# Altium schematic symbol library WE-OLRM.SchLib: 12 symbols
Pins are listed as number, name and electrical type; pins without a type are passive.

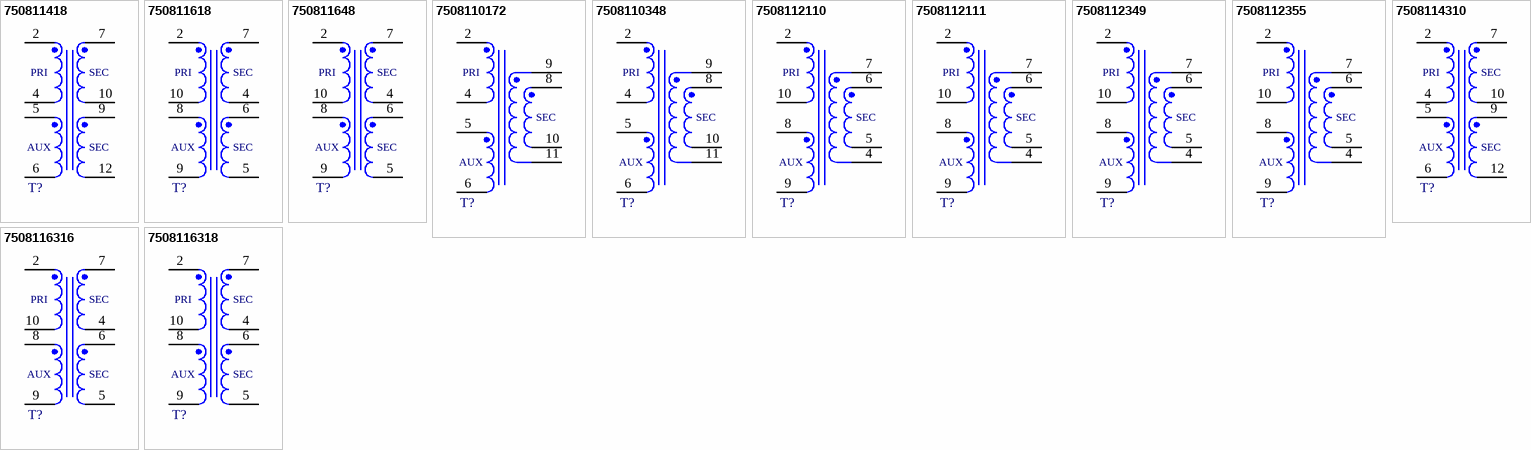
[diagram p0: symbols 750811418 to 7508116318]

## 750811418
designator T?, comment Ui = 100 - 265V, Uo1 = 5V / 0.7A, Uo2 = 12V / 0.29A  (value not drawn)
WE-OLRM RM-Style Offline Flyback Transformer, THT, RM6, Ui = 100 - 265V, Uo1 = 5V / 0.7A, Uo2 = 12V / 0.29A; Manufacturer Part Number: 750811418; Manufacturer: Wurth Elektronik; Auxiliary Voltage: 24V; Inductance: 4000uH; Input Voltage: 100 - 265VAC; Insulation Test Voltage: 3900VAC; Saturation Current: 0.45A; Switching Frequency: 40 - 100kHz; Turns Ratio: 26:1:2.4:4.8; Category: Offline Flyback Transformers; Match Code: WE-OLRM; ComponentLink1Description: Website Link; ComponentLink1URL: https://www.we-online.com/redexpert/article/750811418?ad; ComponentLink2Description: Datasheet Link; ComponentLink2URL: https://www.we-online.com/redexpert/spec/750811418?ad; Mount: Through Hole; Operating Temperature Max: 125°C; Operating Temperature Min: -40°C; Packaging: Tray; Case/Size Code: RM6; Length: 23mm; Width: 20.07mm; Height: 15mm; Output Current 1: 0.7A; Output Current 2: 0.29A; Output Voltage 1: 5V; Output Voltage 2: 12V
footprint WE-OLRM_RM6
pins: 2, 4, 5, 6, 7, 9, 10, 12
text: PRI; SEC; AUX

## 750811618
designator T?, comment Ui = 85 - 265V, Uo1 = 5V / 2A, Uo2 = 12V / 1.1A  (value not drawn)
WE-OLRM RM-Style Offline Flyback Transformer, THT, RM8, Ui = 85 - 265V, Uo1 = 5V / 2A, Uo2 = 12V / 1.1A; Manufacturer Part Number: 750811618; Manufacturer: Wurth Elektronik; Auxiliary Voltage: 16V; Inductance: 742uH; Input Voltage: 85 - 265VAC; Insulation Test Voltage: 3900VAC; Saturation Current: 2.6A; Switching Frequency: 44 - 105kHz; Turns Ratio: 20:2.25:1:3; Category: Offline Flyback Transformers; Match Code: WE-OLRM; ComponentLink1Description: Website Link; ComponentLink1URL: https://www.we-online.com/redexpert/article/750811618?ad; ComponentLink2Description: Datasheet Link; ComponentLink2URL: https://www.we-online.com/redexpert/spec/750811618?ad; Mount: Through Hole; Operating Temperature Max: 125°C; Operating Temperature Min: -40°C; Packaging: Tray; Case/Size Code: RM8; Length: 24.64mm; Width: 24.64mm; Height: 17.32mm; Output Current 1: 2A; Output Current 2: 1.1A; Output Voltage 1: 5V; Output Voltage 2: 12V
footprint WE-OLRM_RM8
pins: 2, 4, 5, 6, 7, 8, 9, 10
text: PRI; SEC; AUX

## 750811648
designator T?, comment Ui = 85 - 265V, Uo1 = 24V / 0.4A, Uo2 = 24V / 0.4A  (value not drawn)
WE-OLRM RM-Style Offline Flyback Transformer, THT, RM10, Ui = 85 - 265V, Uo1 = 24V / 0.4A, Uo2 = 24V / 0.4A; Manufacturer Part Number: 750811648; Manufacturer: Wurth Elektronik; Inductance: 600uH; Input Voltage: 85 - 265VAC; Insulation Test Voltage: 3900VAC; Saturation Current: 3.75A; Switching Frequency: 100kHz; Turns Ratio: 4.5:1:1:1; Category: Offline Flyback Transformers; Match Code: WE-OLRM; ComponentLink1Description: Website Link; ComponentLink1URL: https://www.we-online.com/redexpert/article/750811648?ad; ComponentLink2Description: Datasheet Link; ComponentLink2URL: https://www.we-online.com/redexpert/spec/750811648?ad; Mount: Through Hole; Operating Temperature Max: 125°C; Operating Temperature Min: -40°C; Packaging: Tray; Case/Size Code: RM10; Length: 31.5mm; Width: 31.5mm; Height: 20.5mm; Auxiliary Voltage: 24V; Output Current 1: 0.4A; Output Current 2: 0.4A; Output Voltage 1: 24V; Output Voltage 2: 24V
footprint WE-OLRM_RM10
pins: 2, 4, 5, 6, 7, 8, 9, 10
text: PRI; SEC; AUX

## 7508110172
designator T?, comment Ui = 100 - 265V, Uo1 = 5V / 1.5A  (value not drawn)
WE-OLRM RM-Style Offline Flyback Transformer, THT, RM6, Ui = 100 - 265V, Uo1 = 5V / 1.5A; Manufacturer Part Number: 7508110172; Manufacturer: Wurth Elektronik; Auxiliary Voltage: 20V; Inductance: 4000uH; Input Voltage: 100 - 265VAC; Insulation Test Voltage: 3900VAC; Saturation Current: 0.45A; Switching Frequency: 40 - 100kHz; Turns Ratio: 24:1:4; Category: Offline Flyback Transformers; Match Code: WE-OLRM; ComponentLink1Description: Website Link; ComponentLink1URL: https://www.we-online.com/redexpert/article/7508110172?ad; ComponentLink2Description: Datasheet Link; ComponentLink2URL: https://www.we-online.com/redexpert/spec/7508110172?ad; Mount: Through Hole; Operating Temperature Max: 125°C; Operating Temperature Min: -40°C; Packaging: Tray; Case/Size Code: RM6; Length: 23mm; Width: 20.07mm; Height: 15mm; Output Current 1: 1.5A; Output Voltage 1: 5V
footprint WE-OLRM_RM6
pins: 2, 4, 5, 6, 8, 9, 10, 11
text: PRI; SEC; AUX

## 7508110348
designator T?, comment Ui = 100 - 265V, Uo1 = 12V / 0.6A  (value not drawn)
WE-OLRM RM-Style Offline Flyback Transformer, THT, RM6, Ui = 100 - 265V, Uo1 = 12V / 0.6A; Manufacturer Part Number: 7508110348; Manufacturer: Wurth Elektronik; Auxiliary Voltage: 24V; Inductance: 4000uH; Input Voltage: 100 - 265VAC; Insulation Test Voltage: 3900VAC; Saturation Current: 0.45A; Switching Frequency: 40 - 100kHz; Turns Ratio: 10:1:2; Category: Offline Flyback Transformers; Match Code: WE-OLRM; ComponentLink1Description: Website Link; ComponentLink1URL: https://www.we-online.com/redexpert/article/7508110348?ad; ComponentLink2Description: Datasheet Link; ComponentLink2URL: https://www.we-online.com/redexpert/spec/7508110348?ad; Mount: Through Hole; Operating Temperature Max: 125°C; Operating Temperature Min: -40°C; Packaging: Tray; Case/Size Code: RM6; Length: 23mm; Width: 20.07mm; Height: 15mm; Output Current 1: 0.6A; Output Voltage 1: 12V
footprint WE-OLRM_RM6
pins: 2, 4, 5, 6, 8, 9, 10, 11
text: PRI; SEC; AUX

## 7508112110
designator T?, comment Ui = 85 - 265V, Uo1 = 5V / 4.8A  (value not drawn)
WE-OLRM RM-Style Offline Flyback Transformer, THT, RM8, Ui = 85 - 265V, Uo1 = 5V / 4.8A; Manufacturer Part Number: 7508112110; Manufacturer: Wurth Elektronik; Auxiliary Voltage: 16V; Inductance: 670uH; Input Voltage: 85 - 265VAC; Insulation Test Voltage: 3900VAC; Saturation Current: 2.7A; Switching Frequency: 44 - 80kHz; Turns Ratio: 19:1:2.75; Category: Offline Flyback Transformers; Match Code: WE-OLRM; ComponentLink1Description: Website Link; ComponentLink1URL: https://www.we-online.com/redexpert/article/7508112110?ad; ComponentLink2Description: Datasheet Link; ComponentLink2URL: https://www.we-online.com/redexpert/spec/7508112110?ad; Mount: Through Hole; Operating Temperature Max: 125°C; Operating Temperature Min: -40°C; Packaging: Tray; Case/Size Code: RM8; Length: 24.64mm; Width: 24.64mm; Height: 17.32mm; Output Current 1: 4.8A; Output Voltage 1: 5V
footprint WE-OLRM_RM8
pins: 2, 4, 5, 6, 7, 8, 9, 10
text: PRI; SEC; AUX

## 7508112111
designator T?, comment Ui = 85 - 265V, Uo1 = 5V / 4A  (value not drawn)
WE-OLRM RM-Style Offline Flyback Transformer, THT, RM10, Ui = 85 - 265V, Uo1 = 5V / 4A; Manufacturer Part Number: 7508112111; Manufacturer: Wurth Elektronik; Auxiliary Voltage: 20V; Inductance: 600uH; Input Voltage: 85 - 265VAC; Insulation Test Voltage: 3900VAC; Saturation Current: 3.75A; Switching Frequency: 100kHz; Turns Ratio: 18:1:4; Category: Offline Flyback Transformers; Match Code: WE-OLRM; ComponentLink1Description: Website Link; ComponentLink1URL: https://www.we-online.com/redexpert/article/7508112111?ad; ComponentLink2Description: Datasheet Link; ComponentLink2URL: https://www.we-online.com/redexpert/spec/7508112111?ad; Mount: Through Hole; Operating Temperature Max: 125°C; Operating Temperature Min: -40°C; Packaging: Tray; Case/Size Code: RM10; Length: 31.5mm; Width: 31.5mm; Height: 20.5mm; Output Current 1: 4A; Output Voltage 1: 5V
footprint WE-OLRM_RM10
pins: 2, 4, 5, 6, 7, 8, 9, 10
text: PRI; SEC; AUX

## 7508112349
designator T?, comment Ui = 85 - 265V, Uo1 = 12V / 2.2A  (value not drawn)
WE-OLRM RM-Style Offline Flyback Transformer, THT, RM8, Ui = 85 - 265V, Uo1 = 12V / 2.2A; Manufacturer Part Number: 7508112349; Manufacturer: Wurth Elektronik; Auxiliary Voltage: 16V; Inductance: 681uH; Input Voltage: 85 - 265VAC; Insulation Test Voltage: 3900VAC; Saturation Current: 2.5A; Switching Frequency: 44 - 77kHz; Turns Ratio: 8.75:1:1.38; Category: Offline Flyback Transformers; Match Code: WE-OLRM; ComponentLink1Description: Website Link; ComponentLink1URL: https://www.we-online.com/redexpert/article/7508112349?ad; ComponentLink2Description: Datasheet Link; ComponentLink2URL: https://www.we-online.com/redexpert/spec/7508112349?ad; Mount: Through Hole; Operating Temperature Max: 125°C; Operating Temperature Min: -40°C; Packaging: Tray; Case/Size Code: RM8; Length: 24.64mm; Width: 24.64mm; Height: 17.32mm; Output Current 1: 2.2A; Output Voltage 1: 12V
footprint WE-OLRM_RM8
pins: 2, 4, 5, 6, 7, 8, 9, 10
text: PRI; SEC; AUX

## 7508112355
designator T?, comment Ui = 85 - 265V, Uo1 = 12V / 1.667A  (value not drawn)
WE-OLRM RM-Style Offline Flyback Transformer, THT, RM10, Ui = 85 - 265V, Uo1 = 12V / 1.667A; Manufacturer Part Number: 7508112355; Manufacturer: Wurth Elektronik; Auxiliary Voltage: 24V; Inductance: 600uH; Input Voltage: 85 - 265VAC; Insulation Test Voltage: 3900VAC; Saturation Current: 3.75A; Switching Frequency: 100kHz; Turns Ratio: 9:1:2; Category: Offline Flyback Transformers; Match Code: WE-OLRM; ComponentLink1Description: Website Link; ComponentLink1URL: https://www.we-online.com/redexpert/article/7508112355?ad; ComponentLink2Description: Datasheet Link; ComponentLink2URL: https://www.we-online.com/redexpert/spec/7508112355?ad; Mount: Through Hole; Operating Temperature Max: 125°C; Operating Temperature Min: -40°C; Packaging: Tray; Case/Size Code: RM10; Length: 31.5mm; Width: 31.5mm; Height: 20.5mm; Output Current 1: 1.667A; Output Voltage 1: 12V
footprint WE-OLRM_RM10
pins: 2, 4, 5, 6, 7, 8, 9, 10
text: PRI; SEC; AUX

## 7508114310
designator T?, comment Ui = 100 - 265V, Uo1 = 12V / 0.3A, Uo2 = 12V / 0.3A  (value not drawn)
WE-OLRM RM-Style Offline Flyback Transformer, THT, RM6, Ui = 100 - 265V, Uo1 = 12V / 0.3A, Uo2 = 12V / 0.3A; Manufacturer Part Number: 7508114310; Manufacturer: Wurth Elektronik; Auxiliary Voltage: 24V; Inductance: 4000uH; Input Voltage: 100 - 265VAC; Insulation Test Voltage: 3900VAC; Saturation Current: 0.45A; Switching Frequency: 40 - 100kHz; Turns Ratio: 10:1:1:2; Category: Offline Flyback Transformers; Match Code: WE-OLRM; ComponentLink1Description: Website Link; ComponentLink1URL: https://www.we-online.com/redexpert/article/7508114310?ad; ComponentLink2Description: Datasheet Link; ComponentLink2URL: https://www.we-online.com/redexpert/spec/7508114310?ad; Mount: Through Hole; Operating Temperature Max: 125°C; Operating Temperature Min: -40°C; Packaging: Tray; Case/Size Code: RM6; Length: 23mm; Width: 20.07mm; Height: 15mm; Output Current 1: 0.3A; Output Current 2: 0.3A; Output Voltage 1: 12V; Output Voltage 2: 12V
footprint WE-OLRM_RM6
pins: 2, 4, 5, 6, 7, 9, 10, 12
text: PRI; SEC; AUX

## 7508116316
designator T?, comment Ui = 85 - 265V, Uo1 = 12V / 1.75A, Uo2 = 5V / 0.45A  (value not drawn)
WE-OLRM RM-Style Offline Flyback Transformer, THT, RM8, Ui = 85 - 265V, Uo1 = 12V / 1.75A, Uo2 = 5V / 0.45A; Manufacturer Part Number: 7508116316; Manufacturer: Wurth Elektronik; Auxiliary Voltage: 16V; Inductance: 742uH; Input Voltage: 85 - 265VAC; Insulation Test Voltage: 3900VAC; Saturation Current: 2.6A; Switching Frequency: 44 - 84kHz; Turns Ratio: 20:2.25:1:3; Category: Offline Flyback Transformers; Match Code: WE-OLRM; ComponentLink1Description: Website Link; ComponentLink1URL: https://www.we-online.com/redexpert/article/7508116316?ad; ComponentLink2Description: Datasheet Link; ComponentLink2URL: https://www.we-online.com/redexpert/spec/7508116316?ad; Mount: Through Hole; Operating Temperature Max: 125°C; Operating Temperature Min: -40°C; Packaging: Tray; Case/Size Code: RM8; Length: 24.64mm; Width: 24.64mm; Height: 17.32mm; Output Current 1: 1.75A; Output Current 2: 0.45A; Output Voltage 1: 12V; Output Voltage 2: 5V
footprint WE-OLRM_RM8
pins: 2, 4, 5, 6, 7, 8, 9, 10
text: PRI; SEC; AUX

## 7508116318
designator T?, comment Ui = 85 - 265V, Uo1 = 12V / 0.8A, Uo2 = 12V / 0.8A  (value not drawn)
WE-OLRM RM-Style Offline Flyback Transformer, THT, RM10, Ui = 85 - 265V, Uo1 = 12V / 0.8A, Uo2 = 12V / 0.8A; Manufacturer Part Number: 7508116318; Manufacturer: Wurth Elektronik; Auxiliary Voltage: 24V; Inductance: 600uH; Input Voltage: 85 - 265VAC; Insulation Test Voltage: 3900VAC; Saturation Current: 3.75A; Switching Frequency: 100kHz; Turns Ratio: 9:1:1:2; Category: Offline Flyback Transformers; Match Code: WE-OLRM; ComponentLink1Description: Website Link; ComponentLink1URL: https://www.we-online.com/redexpert/article/7508116318?ad; ComponentLink2Description: Datasheet Link; ComponentLink2URL: https://www.we-online.com/redexpert/spec/7508116318?ad; Mount: Through Hole; Operating Temperature Max: 125°C; Operating Temperature Min: -40°C; Packaging: Tray; Case/Size Code: RM10; Length: 31.5mm; Width: 31.5mm; Height: 20.5mm; Output Current 1: 0.8A; Output Current 2: 0.8A; Output Voltage 1: 12V; Output Voltage 2: 12V
footprint WE-OLRM_RM10
pins: 2, 4, 5, 6, 7, 8, 9, 10
text: PRI; SEC; AUX